# EAGLE library part W25Q128FWP (library flash-memory)
1.8V 128M-BIT SERIAL FLASH MEMORY WITH DUAL/QUAD SPI & QPI The W25Q128FW (128M-bit) Serial Flash memory provides a storage solution for systems with limited space, pins and power. The 25Q series offers flexibility and performance well beyond ordinary Serial Flash devices. They are ideal for code shadowing to RAM, executing code directly from Dual/Quad SPI (XIP) and storing voice, text and data. The device operates on a single 1.65V to 1.95V power supply with current consumption as low as 4mA active and 1µA for power-down. All devices are offered in space-saving packages.
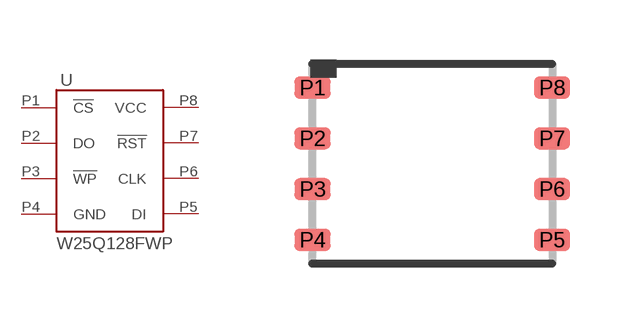
[diagram p0: symbol with the pads of DFN8-4X4; footprint DFN8-4X4]

Designator prefix U

## W25Q128FWP  [DFN8-4X4]
P1  !CS
P2  DO
P3  !WP
P4  GND
P5  DI
P6  CLK
P7  !RST
P8  VCC

## Footprint DFN8-4X4 (pad centres in mm)
DFN8 4x4 mm DRM (S-PDSO-N8) Source: opa277.pdf
smd 0.914 x 0.559: P1 -2.997,1.905; P2 -2.997,0.635; P3 -2.997,-0.635; P4 -2.997,-1.905; P5 2.997,-1.905; P6 2.997,-0.635; P7 2.997,0.635; P8 2.997,1.905